# Altium schematic symbol library DB-9.SchLib: 1 symbol
Pins are listed as number, name and electrical type; pins without a type are passive.

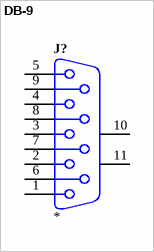
[diagram p0: symbol DB-9]

## DB-9
designator J?
pins: 1, 2, 3, 4, 5, 6, 7, 8, 9, 10 MH1, 11 MH2